# EAGLE library part 5499206-4 (library 5499206-4)
HEADER, STRAIGHT, 20WAY Source: Datasheet
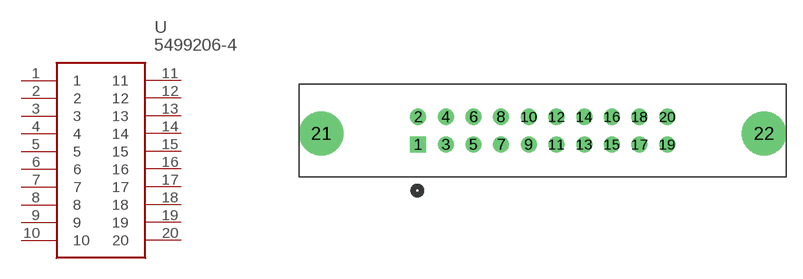
[diagram p0: symbol with the pads of TYCO_5499206-4; footprint TYCO_5499206-4]

Designator prefix U

## 5499206-4 (Arrow_Part_Number: 5499206-4; Arrow_Price-Stock: https://www.arrow.com/en/products/5499206-4/te-connectivity; Description: HEADER, STRAIGHT, 20WAY; Height: mm; Manufacturer_Name: TE Connectivity; Manufacturer_Part_Number: 5499206-4; Mouser_Part_Number: 571-5499206-4; Mouser_Price-Stock: https://www.mouser.co.uk/ProductDetail/TE-Connectivity/5499206-4?qs=HSGlLeu24BOk4m4ee73cQw%3D%3D)  [TYCO_5499206-4]
1  1
2  2
3  3
4  4
5  5
6  6
7  7
8  8
9  9
10  10
11  11
12  12
13  13
14  14
15  15
16  16
17  17
18  18
19  19
20  20

## Footprint TYCO_5499206-4 (pad centres in mm)
TYCO_5499206-4
drill 0.965 pad 1.448 square: 1 -22.86,-2.54
drill 0.965 pad 1.448: 2 -22.86,0; 3 -20.32,-2.54; 4 -20.32,0; 5 -17.78,-2.54; 6 -17.78,0; 7 -15.24,-2.54; 8 -15.24,0; 9 -12.7,-2.54; 10 -12.7,0; 11 -10.16,-2.54; 12 -10.16,0; 13 -7.62,-2.54; 14 -7.62,0; 15 -5.08,-2.54; 16 -5.08,0; 17 -2.54,-2.54; 18 -2.54,0; 19 0,-2.54; 20 0,0
drill 2.692 pad 4.039: 21 -31.75,-1.524; 22 8.89,-1.524